# EAGLE library part MT9P031 (library micron)
MT9P031: 1/2.5-Inch 5-Mp CMOS Image Sensor Source: http://download.micron.com/pdf/product_brief/MT9P031_5100_PB.pdf
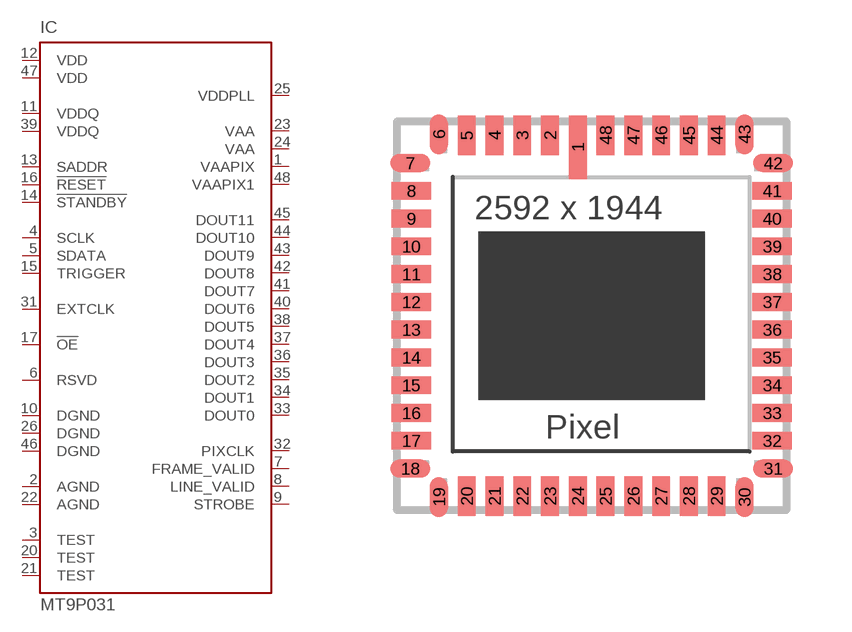
[diagram p0: symbol with the pads of ILCC48; footprint ILCC48]

Designator prefix IC

## MT9P031  [ILCC48]
1  VAAPIX  pwr
2  AGND  pwr
3  TEST  in
4  SCLK  in
5  SDATA  in
6  RSVD  in
7  FRAME_VALID  out
8  LINE_VALID  out
9  STROBE  out
10  DGND  pwr
11  VDDQ  pwr
12  VDD  pwr
13  SADDR  in
14  !STANDBY  in
15  TRIGGER  in
16  !RESET  in
17  !OE  in
20  TEST  in
21  TEST  in
22  AGND  pwr
23  VAA  pwr
24  VAA  pwr
25  VDDPLL  pwr
26  DGND  pwr
31  EXTCLK  in
32  PIXCLK  out
33  DOUT0  out
34  DOUT1  out
35  DOUT2  out
36  DOUT3  out
37  DOUT4  out
38  DOUT5  out
39  VDDQ  pwr
40  DOUT6  out
41  DOUT7  out
42  DOUT8  out
43  DOUT9  out
44  DOUT10  out
45  DOUT11  out
46  DGND  pwr
47  VDD  pwr
48  VAAPIX1  pwr

## Footprint ILCC48 (pad centres in mm)
48-Pin iLCC Package MT9P031: 1/2.5-Inch 5-Mp Digital Image Sensor Source: http://download.micron.com/pdf/product_brief/MT9P031_5100_PB.pdf
smd 0.45 x 1.6: 1 -0.35,4.25
smd 0.45 x 1: 2 -1.05,4.55; 3 -1.75,4.55; 4 -2.45,4.55; 5 -3.15,4.55; 6 -3.85,4.575; 19 -3.85,-4.575; 20 -3.15,-4.55; 21 -2.45,-4.55; 22 -1.75,-4.55; 23 -1.05,-4.55; 24 -0.35,-4.55; 25 0.35,-4.55; 26 1.05,-4.55; 27 1.75,-4.55; 28 2.45,-4.55; 29 3.15,-4.55; 30 3.85,-4.575; 43 3.85,4.575; 44 3.15,4.55; 45 2.45,4.55; 46 1.75,4.55; 47 1.05,4.55; 48 0.35,4.55
smd 1 x 0.45: 7 -4.575,3.85; 8 -4.55,3.15; 9 -4.55,2.45; 10 -4.55,1.75; 11 -4.55,1.05; 12 -4.55,0.35; 13 -4.55,-0.35; 14 -4.55,-1.05; 15 -4.55,-1.75; 16 -4.55,-2.45; 17 -4.55,-3.15; 18 -4.575,-3.85; 31 4.575,-3.85; 32 4.55,-3.15; 33 4.55,-2.45; 34 4.55,-1.75; 35 4.55,-1.05; 36 4.55,-0.35; 37 4.55,0.35; 38 4.55,1.05; 39 4.55,1.75; 40 4.55,2.45; 41 4.55,3.15; 42 4.575,3.85